# Altium footprint library TV1.PcbLib: 5 footprints
Each footprint in its own frame and in the unit in brackets; x right, y up, seen from the top. Pads: shape width x height; smd on the part's side, far side on the other; paste and mask are expansions set on the pad; w line width, h text height; cw(c..) or ccw(c..) is an arc to the next point about the centre after c.
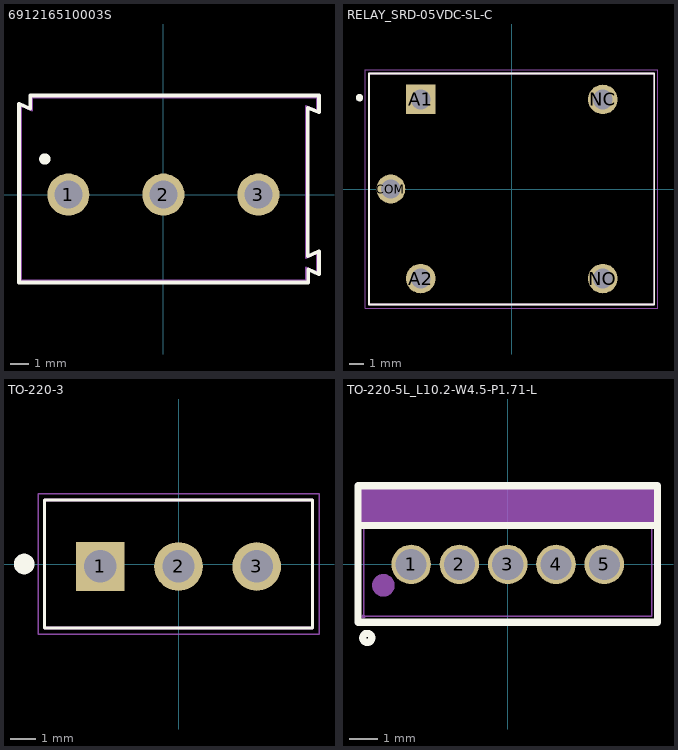
[diagram p0: the footprints below, top view; thin cyan lines are the x and y axes]

## 691216510003S [mm]
pads (3):
  round 2.25 hole 1.5: 1(-5.08,0) 2(0,0) 3(5.08,0)
Top Overlay:
  circle w0.4: c-6.34,1.9 r0.1
  lines w0.2: -7.72,-4.7 -7.72,4.85 -7.12,4.6 -7.12,5.3 8.32,5.3 8.32,4.4 7.72,4.65 7.72,-3.29 8.32,-3.03 8.32,-4.26 7.74,-4 7.74,-4.7 -7.72,-4.7
Mechanical 13:
  lines w0.1: -7.62,-4.6 -7.62,4.75 -7.02,4.5 -7.02,5.2 8.22,5.2 8.22,4.5 7.62,4.75 7.62,-3.39 8.22,-3.13 8.22,-4.16 7.62,-3.9 7.62,-4.6 -7.62,-4.6
3D body "step_temp.STEP": height 13.8, standoff -3.5, extent -7.92,-5.207 7.92,4.593

## PCBComponent_1 [mm]

## RELAY_SRD-05VDC-SL-C [mm]
pads (5):
  rect 1.98x1.98 / inner round 1.98 / far side rect 1.98x1.98 hole 1.32: A1(-6.1,6)
  round 1.98 hole 1.32: A2(-6.1,-6) NC(6.1,6) NO(6.1,-6)
  round 1.935 hole 1.29: COM(-8.1,0)
Top Overlay:
  circle w0.3: c-10.2,6.119 r0.1
  lines w0.127: -9.55,-7.75 9.55,-7.75 9.55,7.75 -9.55,7.75 -9.55,-7.75
Mechanical 13:
  lines w0.127: -9.55,-7.75 9.55,-7.75 9.55,7.75 -9.55,7.75 -9.55,-7.75
Mechanical 15:
  lines w0.05: -9.8,-8 9.8,-8 9.8,8 -9.8,8 -9.8,-8
3D body "step_temp.STEP": height 15.8, standoff -3, extent -9.6,-7.8 9.6,7.8

## TO-220-3 [mm]
pads (3):
  rect 1.89x1.89 / inner round 1.89 / far side rect 1.89x1.89 hole 1.26: 1(-3.04,-0.095)
  round 1.89 hole 1.26: 2(0,-0.095) 3(3.04,-0.095)
Top Overlay:
  circle w0.4: c-6,0 r0.2
  lines w0.127: -5.21,-2.49 5.21,-2.49 5.21,2.49 -5.21,2.49 -5.21,-2.49
Mechanical 13:
  circle w0.4: c-3.04,-0.095 r0.2
  lines w0.127: -5.21,-2.49 5.21,-2.49 5.21,2.49 -5.21,2.49 -5.21,-2.49
Mechanical 15:
  lines w0.05: -5.46,-2.74 -5.46,2.74 5.46,2.74 5.46,-2.74 -5.46,-2.74
3D body "step_temp.STEP": height 19.22, standoff -9.68, extent -5.1,-1.579 5.1,2.921

## TO-220-5L_L10.2-W4.5-P1.71-L [mm]
pads (5):
  round 1.4 hole 1.1: 1(-3.42,0) 2(-1.71,0) 3(0,0) 4(1.71,0) 5(3.42,0)
Top Overlay:
  circle w0.254: c-4.97,-2.6 r0.16
  lines w0.258: -5.3,1.38 5.3,1.38 ; -5.3,-2.05 -5.3,2.78 5.3,2.78 5.3,-2.05 -5.3,-2.05
Mechanical 6:
  circle w0.4: c-4.4,-0.74 r0.2
  region: -5.24,2.79 5.3,2.79 5.31,2.78 5.31,1.43 5.32,1.42 -5.24,1.42 -5.25,1.41
Mechanical 15:
  region: -2.975,-0.25 -3.865,-0.25 -3.865,0.25 -2.975,0.25
  region: -1.265,-0.25 -2.155,-0.25 -2.155,0.25 -1.265,0.25
  region: 0.445,-0.25 -0.445,-0.25 -0.445,0.25 0.445,0.25
  region: 2.155,-0.25 1.265,-0.25 1.265,0.25 2.155,0.25
  region: 3.865,-0.25 2.975,-0.25 2.975,0.25 3.865,0.25
  region: -5.04,-1.84 -5.04,-1.865 -5.075,-1.9 -5.125,-1.9 -5.16,-1.865 -5.16,-1.84 -5.16,-1.815 -5.125,-1.78 -5.075,-1.78 -5.04,-1.815 -5.04,-1.84
  lines w0.051: -5.1,-1.84 -5.1,2.66 5.1,2.66 5.1,-1.84 -5.1,-1.84
3D body "LM2596TADJG.STEP": height 15.62, standoff -13.89, extent -5.112,-1.778 5.112,2.667